# Altium footprint library Capacitor_THT.PcbLib: 378 footprints (part 2 of 24)
Each footprint in its own frame and in the unit in brackets; x right, y up, seen from the top. Pads: shape width x height; smd on the part's side, far side on the other; paste and mask are expansions set on the pad; w line width, h text height; cw(c..) or ccw(c..) is an arc to the next point about the centre after c.
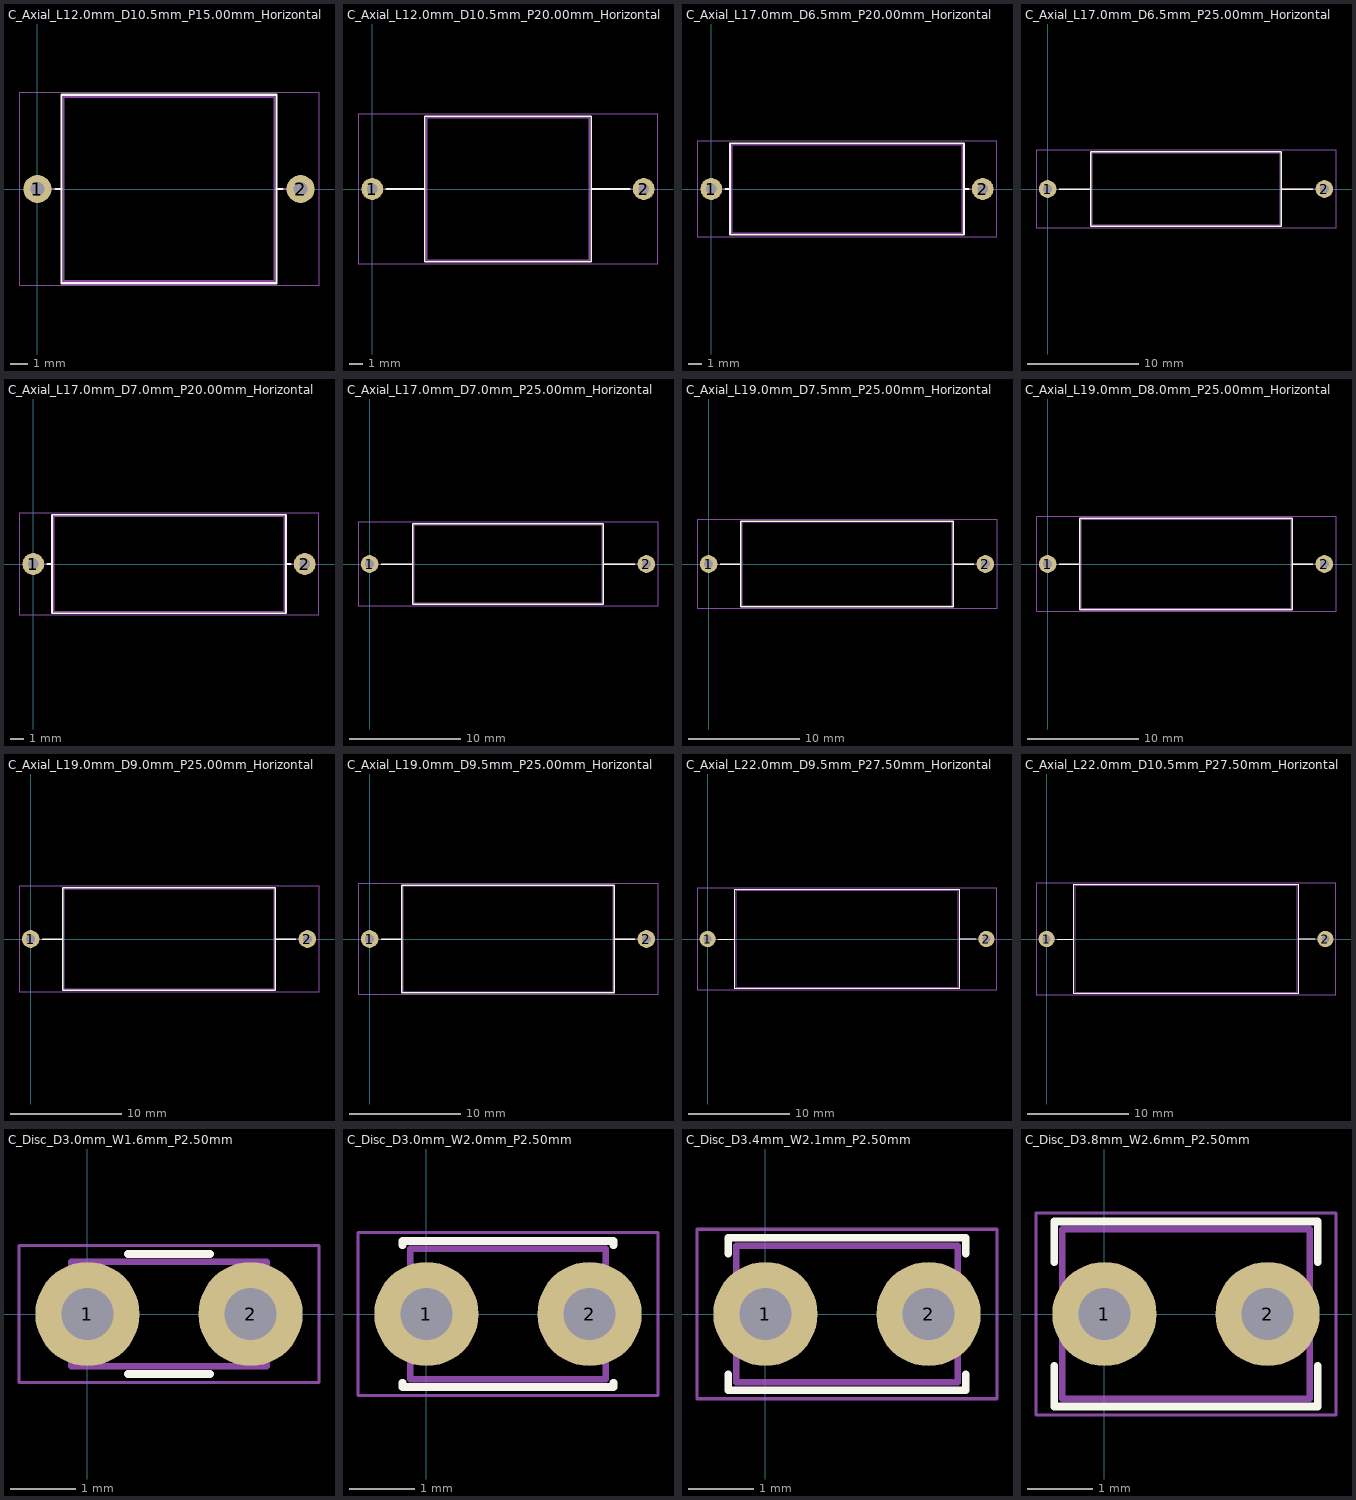
[diagram p1: the footprints below, top view; thin cyan lines are the x and y axes]

## C_Axial_L12.0mm_D10.5mm_P15.00mm_Horizontal [mm]
pads (2):
  round 1.6 hole 0.8: 1(0,0)
  rrect100% 1.6x1.6 hole 0.8: 2(15,0)
F.SilkS:
  lines w0.12: 1.04,0 1.38,0 ; 13.62,0 13.96,0 ; 1.38,-5.37 1.38,5.37 13.62,5.37 13.62,-5.37 1.38,-5.37
F.CrtYd:
  lines w0.05: -1.05,-5.5 16.05,-5.5 16.05,5.5 -1.05,5.5 -1.05,-5.5
F.Fab:
  lines w0.1: 0,0 1.5,0 ; 13.5,0 15,0 ; 1.5,-5.25 13.5,-5.25 13.5,5.25 1.5,5.25 1.5,-5.25
  text "'.Designator'" at 3.453,-0.84 h1

## C_Axial_L12.0mm_D10.5mm_P20.00mm_Horizontal [mm]
pads (2):
  round 1.6 hole 0.8: 1(0,0)
  rrect100% 1.6x1.6 hole 0.8: 2(20,0)
F.SilkS:
  lines w0.12: 1.04,0 3.88,0 ; 16.12,0 18.96,0 ; 3.88,-5.37 3.88,5.37 16.12,5.37 16.12,-5.37 3.88,-5.37
F.CrtYd:
  lines w0.05: -1.05,-5.5 -1.05,5.5 21.05,5.5 21.05,-5.5 -1.05,-5.5
F.Fab:
  lines w0.1: 0,0 4,0 ; 16,0 20,0 ; 4,-5.25 16,-5.25 16,5.25 4,5.25 4,-5.25
  text "'.Designator'" at 5.953,-0.84 h1

## C_Axial_L17.0mm_D6.5mm_P20.00mm_Horizontal [mm]
pads (2):
  round 1.6 hole 0.8: 1(0,0)
  rrect100% 1.6x1.6 hole 0.8: 2(20,0)
F.SilkS:
  lines w0.12: 1.04,0 1.38,0 ; 18.62,0 18.96,0 ; 1.38,-3.37 1.38,3.37 18.62,3.37 18.62,-3.37 1.38,-3.37
F.CrtYd:
  lines w0.05: -1.05,-3.5 21.05,-3.5 21.05,3.5 -1.05,3.5 -1.05,-3.5
F.Fab:
  lines w0.1: 0,0 1.5,0 ; 18.5,0 20,0 ; 1.5,-3.25 1.5,3.25 18.5,3.25 18.5,-3.25 1.5,-3.25
  text "'.Designator'" at 5.953,-0.84 h1

## C_Axial_L17.0mm_D6.5mm_P25.00mm_Horizontal [mm]
pads (2):
  round 1.6 hole 0.8: 1(0,0)
  rrect100% 1.6x1.6 hole 0.8: 2(25,0)
F.SilkS:
  lines w0.12: 1.04,0 3.88,0 ; 21.12,0 23.96,0 ; 3.88,-3.37 21.12,-3.37 21.12,3.37 3.88,3.37 3.88,-3.37
F.CrtYd:
  lines w0.05: -1.05,-3.5 26.05,-3.5 26.05,3.5 -1.05,3.5 -1.05,-3.5
F.Fab:
  lines w0.1: 0,0 4,0 ; 21,0 25,0 ; 4,-3.25 4,3.25 21,3.25 21,-3.25 4,-3.25
  text "'.Designator'" at 8.453,-0.84 h1

## C_Axial_L17.0mm_D7.0mm_P20.00mm_Horizontal [mm]
pads (2):
  round 1.6 hole 0.8: 1(0,0)
  rrect100% 1.6x1.6 hole 0.8: 2(20,0)
F.SilkS:
  lines w0.12: 1.04,0 1.38,0 ; 18.62,0 18.96,0 ; 1.38,-3.62 18.62,-3.62 18.62,3.62 1.38,3.62 1.38,-3.62
F.CrtYd:
  lines w0.05: -1.05,-3.75 -1.05,3.75 21.05,3.75 21.05,-3.75 -1.05,-3.75
F.Fab:
  lines w0.1: 0,0 1.5,0 ; 18.5,0 20,0 ; 1.5,-3.5 1.5,3.5 18.5,3.5 18.5,-3.5 1.5,-3.5
  text "'.Designator'" at 5.953,-0.84 h1

## C_Axial_L17.0mm_D7.0mm_P25.00mm_Horizontal [mm]
pads (2):
  round 1.6 hole 0.8: 1(0,0)
  rrect100% 1.6x1.6 hole 0.8: 2(25,0)
F.SilkS:
  lines w0.12: 1.04,0 3.88,0 ; 21.12,0 23.96,0 ; 3.88,-3.62 21.12,-3.62 21.12,3.62 3.88,3.62 3.88,-3.62
F.CrtYd:
  lines w0.05: -1.05,-3.75 26.05,-3.75 26.05,3.75 -1.05,3.75 -1.05,-3.75
F.Fab:
  lines w0.1: 0,0 4,0 ; 21,0 25,0 ; 4,-3.5 4,3.5 21,3.5 21,-3.5 4,-3.5
  text "'.Designator'" at 8.453,-0.84 h1

## C_Axial_L19.0mm_D7.5mm_P25.00mm_Horizontal [mm]
pads (2):
  round 1.6 hole 0.8: 1(0,0)
  rrect100% 1.6x1.6 hole 0.8: 2(25,0)
F.SilkS:
  lines w0.12: 1.04,0 2.88,0 ; 22.12,0 23.96,0 ; 2.88,-3.87 22.12,-3.87 22.12,3.87 2.88,3.87 2.88,-3.87
F.CrtYd:
  lines w0.05: -1.05,-4 -1.05,4 26.05,4 26.05,-4 -1.05,-4
F.Fab:
  lines w0.1: 0,0 3,0 ; 22,0 25,0 ; 3,-3.75 3,3.75 22,3.75 22,-3.75 3,-3.75
  text "'.Designator'" at 8.453,-0.84 h1

## C_Axial_L19.0mm_D8.0mm_P25.00mm_Horizontal [mm]
pads (2):
  round 1.6 hole 0.8: 1(0,0)
  rrect100% 1.6x1.6 hole 0.8: 2(25,0)
F.SilkS:
  lines w0.12: 1.04,0 2.88,0 ; 22.12,0 23.96,0 ; 2.88,-4.12 2.88,4.12 22.12,4.12 22.12,-4.12 2.88,-4.12
F.CrtYd:
  lines w0.05: -1.05,-4.25 26.05,-4.25 26.05,4.25 -1.05,4.25 -1.05,-4.25
F.Fab:
  lines w0.1: 0,0 3,0 ; 22,0 25,0 ; 3,-4 22,-4 22,4 3,4 3,-4
  text "'.Designator'" at 8.453,-0.84 h1

## C_Axial_L19.0mm_D9.0mm_P25.00mm_Horizontal [mm]
pads (2):
  round 1.6 hole 0.8: 1(0,0)
  rrect100% 1.6x1.6 hole 0.8: 2(25,0)
F.SilkS:
  lines w0.12: 1.04,0 2.88,0 ; 22.12,0 23.96,0 ; 2.88,-4.62 2.88,4.62 22.12,4.62 22.12,-4.62 2.88,-4.62
F.CrtYd:
  lines w0.05: -1.05,-4.75 -1.05,4.75 26.05,4.75 26.05,-4.75 -1.05,-4.75
F.Fab:
  lines w0.1: 0,0 3,0 ; 22,0 25,0 ; 3,-4.5 22,-4.5 22,4.5 3,4.5 3,-4.5
  text "'.Designator'" at 8.453,-0.84 h1

## C_Axial_L19.0mm_D9.5mm_P25.00mm_Horizontal [mm]
pads (2):
  round 1.6 hole 0.8: 1(0,0)
  rrect100% 1.6x1.6 hole 0.8: 2(25,0)
F.SilkS:
  lines w0.12: 1.04,0 2.88,0 ; 22.12,0 23.96,0 ; 2.88,-4.87 22.12,-4.87 22.12,4.87 2.88,4.87 2.88,-4.87
F.CrtYd:
  lines w0.05: -1.05,-5 -1.05,5 26.05,5 26.05,-5 -1.05,-5
F.Fab:
  lines w0.1: 0,0 3,0 ; 22,0 25,0 ; 3,-4.75 22,-4.75 22,4.75 3,4.75 3,-4.75
  text "'.Designator'" at 8.453,-0.84 h1

## C_Axial_L22.0mm_D9.5mm_P27.50mm_Horizontal [mm]
pads (2):
  round 1.6 hole 0.8: 1(0,0)
  rrect100% 1.6x1.6 hole 0.8: 2(27.5,0)
F.SilkS:
  lines w0.12: 1.04,0 2.63,0 ; 24.87,0 26.46,0 ; 2.63,-4.87 2.63,4.87 24.87,4.87 24.87,-4.87 2.63,-4.87
F.CrtYd:
  lines w0.05: -1.05,-5 28.55,-5 28.55,5 -1.05,5 -1.05,-5
F.Fab:
  lines w0.1: 0,0 2.75,0 ; 24.75,0 27.5,0 ; 2.75,-4.75 24.75,-4.75 24.75,4.75 2.75,4.75 2.75,-4.75
  text "'.Designator'" at 9.703,-0.84 h1

## C_Axial_L22.0mm_D10.5mm_P27.50mm_Horizontal [mm]
pads (2):
  round 1.6 hole 0.8: 1(0,0)
  rrect100% 1.6x1.6 hole 0.8: 2(27.5,0)
F.SilkS:
  lines w0.12: 1.04,0 2.63,0 ; 24.87,0 26.46,0 ; 2.63,-5.37 2.63,5.37 24.87,5.37 24.87,-5.37 2.63,-5.37
F.CrtYd:
  lines w0.05: -1.05,-5.5 28.55,-5.5 28.55,5.5 -1.05,5.5 -1.05,-5.5
F.Fab:
  lines w0.1: 0,0 2.75,0 ; 24.75,0 27.5,0 ; 2.75,-5.25 2.75,5.25 24.75,5.25 24.75,-5.25 2.75,-5.25
  text "'.Designator'" at 9.703,-0.84 h1

## C_Disc_D3.0mm_W1.6mm_P2.50mm [mm]
pads (2):
  round 1.6 hole 0.8: 1(0,0) 2(2.5,0)
F.SilkS:
  lines w0.12: 0.621,-0.92 1.879,-0.92 ; 0.621,0.92 1.879,0.92
F.CrtYd:
  lines w0.05: -1.05,-1.05 3.55,-1.05 3.55,1.05 -1.05,1.05 -1.05,-1.05
F.Fab:
  lines w0.1: -0.25,-0.8 2.75,-0.8 2.75,0.8 -0.25,0.8 -0.25,-0.8
  text "'.Designator'" at -1.178,-0.504 h0.6

## C_Disc_D3.0mm_W2.0mm_P2.50mm [mm]
pads (2):
  round 1.6 hole 0.8: 1(0,0) 2(2.5,0)
F.SilkS:
  lines w0.12: -0.37,-1.055 -0.37,-1.12 2.87,-1.12 2.87,-1.055 ; -0.37,1.055 -0.37,1.12 2.87,1.12 2.87,1.055
F.CrtYd:
  lines w0.05: -1.05,-1.25 -1.05,1.25 3.55,1.25 3.55,-1.25 -1.05,-1.25
F.Fab:
  lines w0.1: -0.25,-1 2.75,-1 2.75,1 -0.25,1 -0.25,-1
  text "'.Designator'" at -1.178,-0.504 h0.6

## C_Disc_D3.4mm_W2.1mm_P2.50mm [mm]
pads (2):
  round 1.6 hole 0.8: 1(0,0) 2(2.5,0)
F.SilkS:
  lines w0.12: -0.57,-0.925 -0.57,-1.17 3.07,-1.17 3.07,-0.925 ; -0.57,0.925 -0.57,1.17 3.07,1.17 3.07,0.925
F.CrtYd:
  lines w0.05: -1.05,-1.3 -1.05,1.3 3.55,1.3 3.55,-1.3 -1.05,-1.3
F.Fab:
  lines w0.1: -0.45,-1.05 -0.45,1.05 2.95,1.05 2.95,-1.05 -0.45,-1.05
  text "'.Designator'" at -1.502,-0.571 h0.68

## C_Disc_D3.8mm_W2.6mm_P2.50mm [mm]
pads (2):
  round 1.6 hole 0.8: 1(0,0) 2(2.5,0)
F.SilkS:
  lines w0.12: -0.77,-0.795 -0.77,-1.42 3.27,-1.42 3.27,-0.795 ; -0.77,0.795 -0.77,1.42 3.27,1.42 3.27,0.795
F.CrtYd:
  lines w0.05: -1.05,-1.55 -1.05,1.55 3.55,1.55 3.55,-1.55 -1.05,-1.55
F.Fab:
  lines w0.1: -0.65,-1.3 -0.65,1.3 3.15,1.3 3.15,-1.3 -0.65,-1.3
  text "'.Designator'" at -1.826,-0.639 h0.76